# Altium schematic symbol library Components - 23.03.21 - 16.48.SchLib: 1 symbol
Pins are listed as number, name and electrical type; pins without a type are passive.

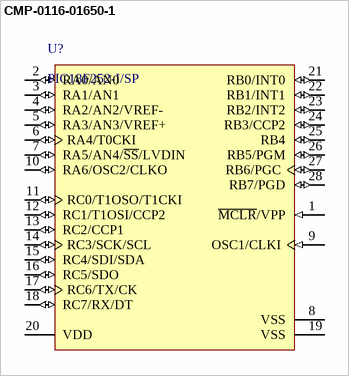
[diagram p0: symbol CMP-0116-01650-1]

## CMP-0116-01650-1
designator U?, comment PIC18F252-I/SP
High Performance, Enhanced Flash Microcontroller with 10-Bit A/D, 40 MHz, 23 I/O, -40 to 85 degC, 28-pin SPDIP (SP28), Tube; Manufacturer: Microchip; # of A/D Channels: 5; Program Memory KBytes: 32; Operation Voltage Range: 4.2V - 5.5V; Program Memory KWords: 16; RAM: 1536; Timers: 1 - 8-bit, 3 - 16-bit; EEPROM Data Memory (bytes): 256; Max. CPU Speed MHz: 40; I/O Pins: 23; Digital Communication: 0 -UART, 1 -A/E/USART, 0 -SPI, 0 -I2C, 1 -MSSP(SPI/I2C); ComponentLink3URL: Product URL:http://www.microchip.com/datasheet/PIC18F252; PackageReference: SPDIP-SP28; RoHS: TRUE; ComponentLink1URL: http://ww1.microchip.com/downloads/en/DeviceDoc/39564c.pdf; PackageDescription: 28-Lead Plastic Dual In-Line, 34.86 x 6.79 mm Body, 2.54 mm Pitch; PartNumber: PIC18F252-I/SP; ComponentLink1Description: Datasheet; Memory Type: Flash; Packing: TUBE; ComponentLink2URL: http://www.microchip.com/stellent/groups/techpub_sg/documents/packagingspec/en012702.pdf; DatasheetVersion: Rev. C; ComponentLink2Description: Package Specification; ComponentLink3Description: URL Link1; Mounting Technology: Through Hole; PackageVersion: C04-070B, 12/2012
footprint MCHP-SPDIP-SP28 (DIP, 28-Leads, Body 34.86x6.79mm, Pitch 2.54mm)
pins: 1 ~{MCLR}/VPP (in), 2 RA0/AN0 (io), 3 RA1/AN1 (io), 4 RA2/AN2/VREF- (io), 5 RA3/AN3/VREF+ (io), 6 RA4/T0CKI (io), 7 RA5/AN4/~{SS}/LVDIN (io), 8 VSS (power) "Ground reference for logic and I/O pins.", 9 OSC1/CLKI (in), 10 RA6/OSC2/CLKO (io), 11 RC0/T1OSO/T1CKI (io), 12 RC1/T1OSI/CCP2 (io), 13 RC2/CCP1 (io), 14 RC3/SCK/SCL (io), 15 RC4/SDI/SDA (io), 16 RC5/SDO (io), 17 RC6/TX/CK (io), 18 RC7/RX/DT (io), 19 VSS (power) "Ground reference for logic and I/O pins.", 20 VDD (power) "Positive supply for logic and I/O pins.", 21 RB0/INT0 (io), 22 RB1/INT1 (io), 23 RB2/INT2 (io), 24 RB3/CCP2 (io), 25 RB4 (io) "Digital I/O. Interrupt-on-change pin.", 26 RB5/PGM (io), 27 RB6/PGC (io), 28 RB7/PGD (io)